# Altium footprint library Diodes.PcbLib: 15 footprints
Each footprint in its own frame and in the unit in brackets; x right, y up, seen from the top. Pads: shape width x height; smd on the part's side, far side on the other; paste and mask are expansions set on the pad; w line width, h text height; cw(c..) or ccw(c..) is an arc to the next point about the centre after c.
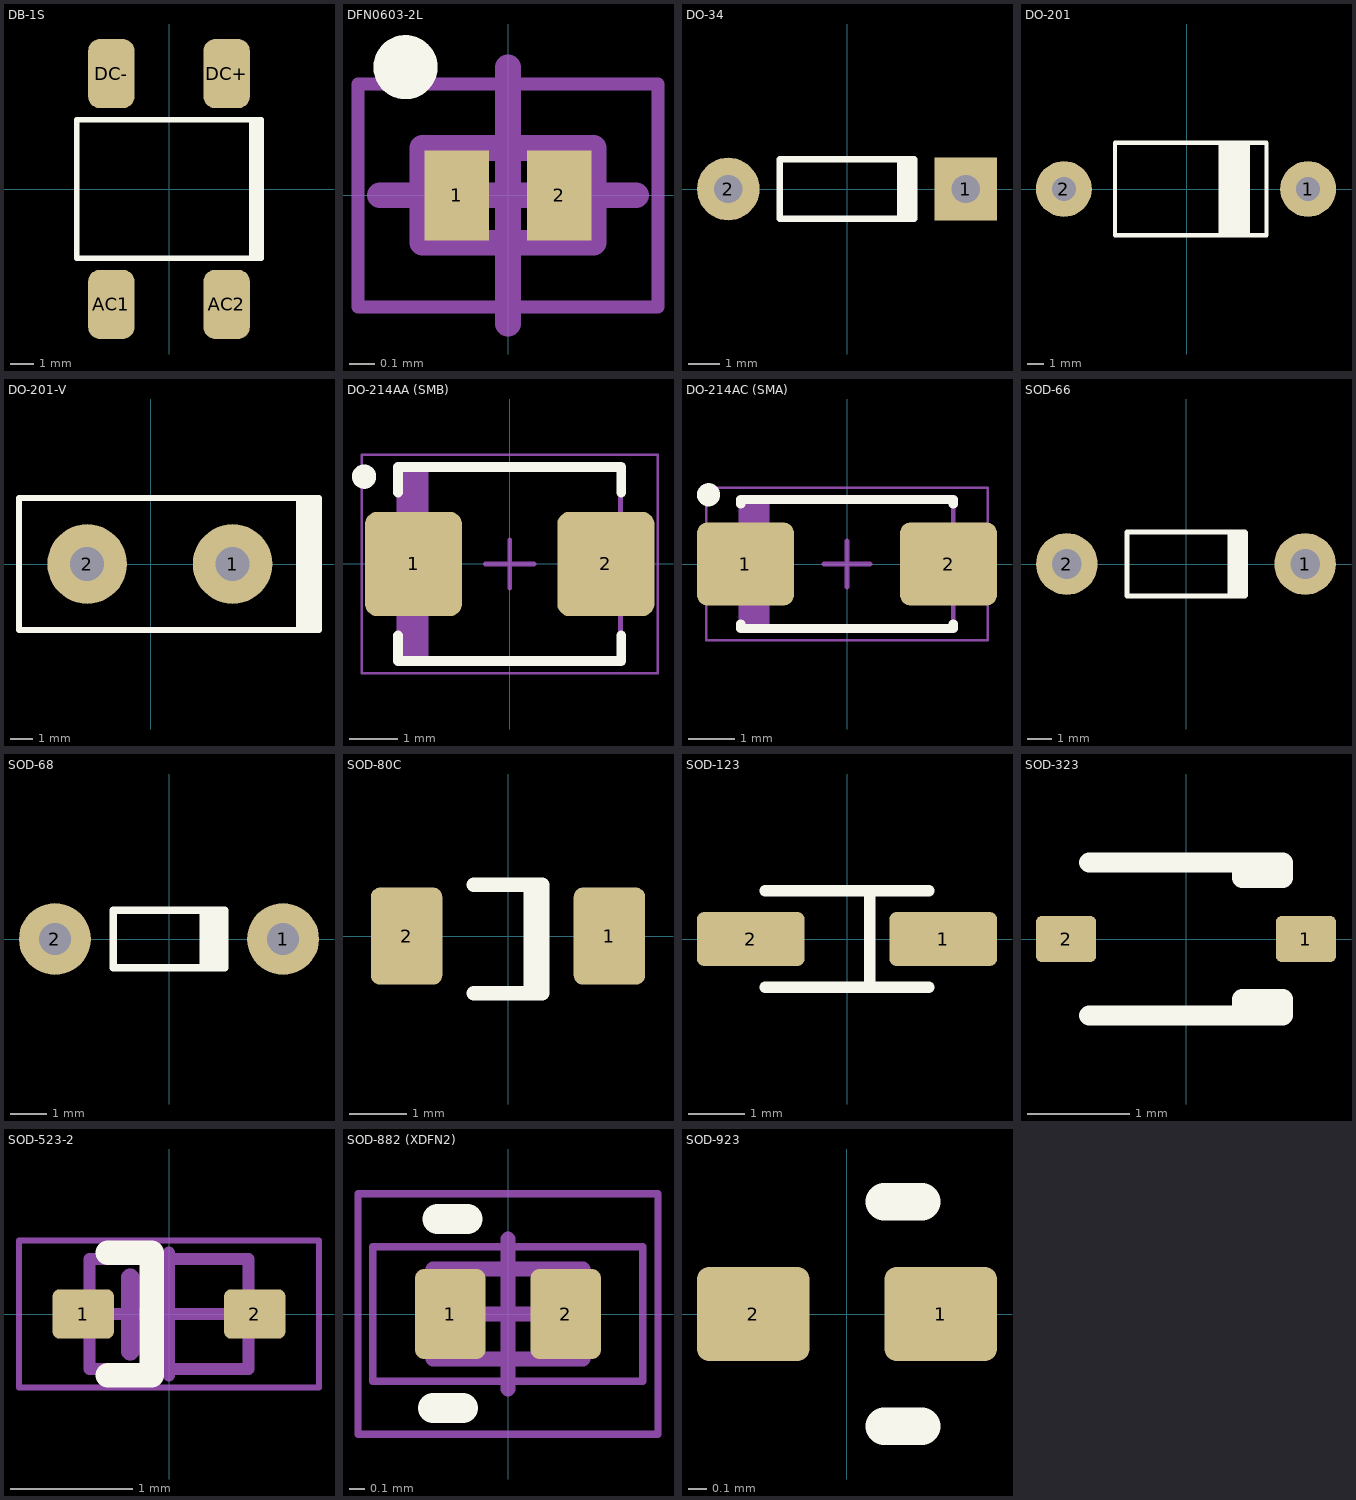
[diagram p0: the footprints below, top view; thin cyan lines are the x and y axes]

## DB-1S [mm]
pads (4):
  rrect50% 2x3 smd: AC1(-2.5,-5) AC2(2.5,-5) DC+(2.5,5) DC-(-2.5,5)
Top Overlay:
  lines w0.254: 3.6,-3 3.6,3 ; 3.8,-3 3.8,3 ; -4,-3 -4,3 4,3 4,-3 -4,-3

## DFN0603-2L [mm] "DFN, 2-Leads, Body 0.32x0.62mm, Pitch 0.40mm, IPC Medium Density"
height 0.37
pads (2):
  rect 0.25x0.35 smd mask+0.05: 1(-0.2,0) 2(0.2,0)
Top Overlay:
  circle w0.15: c-0.4,0.5 r0.05
Mechanical 13:
  lines w0.1: -0.335,-0.185 -0.335,0.185 0.335,0.185 0.335,-0.185 -0.335,-0.185
Mechanical 15:
  lines w0.05: -0.585,-0.435 -0.585,0.435 0.585,0.435 0.585,-0.435 -0.585,-0.435
  lines w0.1: -0.5,0 0.5,0 ; 0,-0.5 0,0.5
3D body "DFN0603-2L.step": height 0.37, standoff 0, extent -0.335,-0.185 0.335,0.185

## DO-34 [mm]
height 2
pads (2):
  rect 2x2 hole 0.9: 1(3.79,0)
  round 2 hole 0.9: 2(-3.79,0)
Top Overlay:
  region: 1.6,-0.95 2.25,-0.95 2.25,0.95 1.6,0.95
  lines w0.2: 2.15,-0.95 -2.15,-0.95 -2.15,0.95 2.15,0.95

## DO-201 [mm]
height 6
pads (2):
  round 3.5 hole 1.5: 1(7.6,0) 2(-7.7,0)
Top Overlay:
  region: 2,-2.9 3.95,-2.9 3.95,2.9 2,2.9
  lines w0.254: -4.5,-2.9 5,-2.9 5,2.9 -4.5,2.9 -4.5,-2.9
3D body "User Library-DO-201AD.STEP": height 7.6, standoff -4, extent -8.36,-2.8 8.2,2.8

## DO-201-V [mm]
height 6
pads (2):
  round 3.5 hole 1.5: 1(3.6,0) 2(-2.8,0)
Top Overlay:
  region: 6.4,-2.9 7.4,-2.9 7.4,2.825 6.4,2.825
  lines w0.254: -5.8,-2.9 7.4,-2.9 7.4,2.9 -5.8,2.9 -5.8,-2.9
3D body "User Library-User Library-DO-201AV-Vertical_2001.STEP": height 15.69, standoff -3, extent -5.6,-2.8 4.29,2.8

## DO-214AA (SMB) [mm] "Molded Diode, 2-Leads, Body 4,31x3,62mm, IPC Medium Density"
height 2.44
pads (2):
  rrect25% 2x2.15 smd mask+0.05: 1(-1.98,0) 2(1.98,0)
Top Overlay:
  circle w0.25: c-3,1.8 r0.125
  lines w0.2: -2.3,-1.475 -2.3,-2 2.3,-2 2.3,-1.475 ; -2.3,1.475 -2.3,2 2.3,2 2.3,1.475
Mechanical 13:
  rectangle: -2.285,-1.97 -1.67,1.97
  lines w0.1: -2.285,-1.97 -2.285,1.97 2.285,1.97 2.285,-1.97 -2.285,-1.97
Mechanical 15:
  lines w0.05: -3.05,-2.25 -3.05,2.25 3.05,2.25 3.05,-2.25 -3.05,-2.25
  lines w0.1: -0.5,0 0.5,0 ; 0,-0.5 0,0.5
3D body "DO-214AA_SMB.step": height 2.25, standoff 0, extent -2.65,-1.85 2.65,1.85

## DO-214AC (SMA) [mm] "Molded Diode, 2-Leads, Body 4,30x2,59mm, IPC Medium Density"
height 2.29
pads (2):
  rrect25% 2.1x1.8 smd: 1(-2.2,0) 2(2.2,0)
Top Overlay:
  circle w0.25: c-3,1.5 r0.125
  lines w0.2: -2.3,-1.3 -2.3,-1.4 2.3,-1.4 2.3,-1.3 ; -2.3,1.3 -2.3,1.4 2.3,1.4 2.3,1.3
Mechanical 13:
  rectangle: -2.3,-1.395 -1.681,1.395
  lines w0.1: -2.3,-1.395 2.3,-1.395 2.3,1.395 -2.3,1.395 -2.3,-1.395
Mechanical 15:
  lines w0.05: -3.05,-1.65 3.05,-1.65 3.05,1.65 -3.05,1.65 -3.05,-1.65
  lines w0.1: -0.5,0 0.5,0 ; 0,-0.5 0,0.5
3D body "DO-214AC_SMA.step": height 2.2, standoff 0, extent -2.5,-1.35 2.5,1.35

## SOD-66 [mm]
pads (2):
  round 2.5 hole 1.2: 1(4.83,0) 2(-4.83,0)
Top Overlay:
  region: 1.7,-1.3 2.5,-1.3 2.5,1.3 1.7,1.3
  lines w0.2: 2.4,-1.3 -2.4,-1.3 -2.4,1.3 2.4,1.3

## SOD-68 [mm]
pads (2):
  round 2 hole 0.9: 1(3.175,0) 2(-3.175,0)
Top Overlay:
  region: 0.85,-0.8 1.65,-0.8 1.65,0.8 0.85,0.8
  lines w0.2: 1.55,-0.8 -1.55,-0.8 -1.55,0.8 1.55,0.8

## SOD-80C [mm]
pads (2):
  rrect25% 1.25x1.7 smd mask+0.05: 1(1.775,0) 2(-1.775,0)
Top Overlay:
  lines w0.254: -0.6,-1 0.4,-1 ; -0.6,0.9 0.4,0.9 ; 0.4,-1 0.6,-1 0.6,0.9 0.4,0.9 ; 0.4,-1 0.4,0.9
3D body "sod80.step": height 1.6, standoff 0, extent -1.82,-0.8 1.88,0.8

## SOD-123 [mm]
pads (2):
  rrect25% 1.9x0.95 smd mask+0.05: 1(1.7,0) 2(-1.7,0)
Top Overlay:
  lines w0.2: -1.45,-0.85 1.45,-0.85 ; -1.45,0.85 1.45,0.85 ; 0.4,-0.85 0.4,0.85

## SOD-323 [mm]
pads (2):
  rrect25% 0.59x0.45 smd mask+0.05: 1(1.175,0) 2(-1.175,0)
Top Overlay:
  lines w0.2: -0.95,-0.75 0.95,-0.75 0.95,-0.59 0.55,-0.59 0.55,-0.75 ; -0.95,0.75 0.95,0.75 0.95,0.6 0.55,0.6 0.55,0.75
3D body "SOD-323.step": height 1.1, standoff 0, extent -1.3,-0.675 1.3,0.675

## SOD-523-2 [mm] "SODFL, 2-Leads, Body 1.20x0.80x0.60mm, IPC Medium Density"
height 0.7
pads (2):
  rrect25% 0.5x0.4 smd mask+0.05: 1(-0.7,0) 2(0.7,0)
Top Overlay:
  lines w0.2: -0.5,-0.5 -0.139,-0.5 -0.139,0.5 -0.5,0.5
Mechanical 13:
  lines w0.1: -0.65,-0.45 0.65,-0.45 0.65,0.45 -0.65,0.45 -0.65,-0.45
  lines w0.15: -0.316,-0.304 -0.316,0.296
Mechanical 15:
  lines w0.05: -1.225,-0.6 -1.225,0.6 1.225,0.6 1.225,-0.6 -1.225,-0.6
  lines w0.1: -0.5,0 0.5,0 ; 0,-0.5 0,0.5
3D body "SOD-523-2.step": height 0.7, standoff 0, extent -0.8,-0.45 0.8,0.45

## SOD-882 (XDFN2) [mm] "SOD, 2-Leads, Body 1.0x0.6mm, IPC Medium Density"
height 0.44
pads (2):
  rrect25% 0.47x0.6 smd mask+0.05: 1(-0.385,0) 2(0.385,0)
Top Overlay:
  lines w0.2: -0.499,-0.626 -0.299,-0.626 ; -0.469,0.634 -0.269,0.634
Mechanical 13:
  lines w0.1: -0.5,-0.3 -0.5,0.3 0.5,0.3 0.5,-0.3 -0.5,-0.3
Mechanical 15:
  lines w0.05: -1,-0.8 -1,0.8 1,0.8 1,-0.8 -1,-0.8 ; -0.9,-0.45 -0.9,0.45 0.9,0.45 0.9,-0.45 -0.9,-0.45
  lines w0.1: -0.5,0 0.5,0 ; 0,-0.5 0,0.5
3D body "SOD-882 (XDFN2).step": height 0.44, standoff 0, extent -0.5,-0.3 0.5,0.3

## SOD-923 [mm]
height 0.45
pads (2):
  rrect25% 0.6x0.5 smd mask+0.05: 1(0.5,0) 2(-0.5,0)
Top Overlay:
  lines w0.2: 0.2,-0.6 0.4,-0.6 ; 0.2,0.6 0.4,0.6
3D body "User Library-DIODE_SOD-923.step": height 0.43, standoff 0, extent -0.525,-0.325 0.525,0.325